# EAGLE library part 68711414022 (library Eagle_FPC_CONNECTOR_AND_FFC_CAB (rev18c))
WR-FPC 0.5mm SMT ZIF Horizontal Top Contact, 14 Pins=>Code : Con_FPC_ZIF_0.50_68711414022 <http://katalog.we-online.de/media/images/eican/Con_FPC_ZIF_0.50_6871xx14022_pf2.jpg> Details see: http://katalog.we-online.de/en/em/687_1xx_140_22 Created 2014-07-09, Karrer Zheng 2014 (C) Würth Elektronik
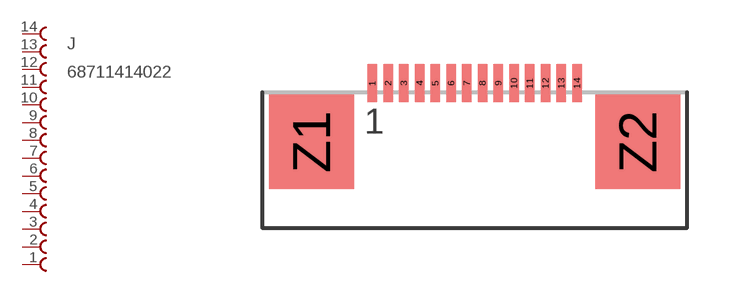
[diagram p20: symbol with the pads of 68711414022; footprint 68711414022]

Designator prefix J

## 68711414022  [68711414022]
1  14  pas
2  13  pas
3  12  pas
4  11  pas
5  10  pas
6  9  pas
7  8  pas
8  7  pas
9  6  pas
10  5  pas
11  4  pas
12  3  pas
13  2  pas
14  1  pas

## Footprint 68711414022 (pad centres in mm)
WR-FPC 0.5mm SMT ZIF Horizontal Top Contact, 14 Pins
smd 0.3 x 1.2: 1 -3.25,1.86; 2 -2.75,1.86; 3 -2.25,1.86; 4 -1.75,1.86; 5 -1.25,1.86; 6 -0.75,1.86; 7 -0.25,1.86; 8 0.25,1.86; 9 0.75,1.86; 10 1.25,1.86; 11 1.75,1.86; 12 2.25,1.86; 13 2.75,1.86; 14 3.25,1.86
smd 2.7 x 3: Z1 -5.18,0; Z2 5.18,0